# EAGLE library part MA06-1 (library bmowdisk)
PIN HEADER
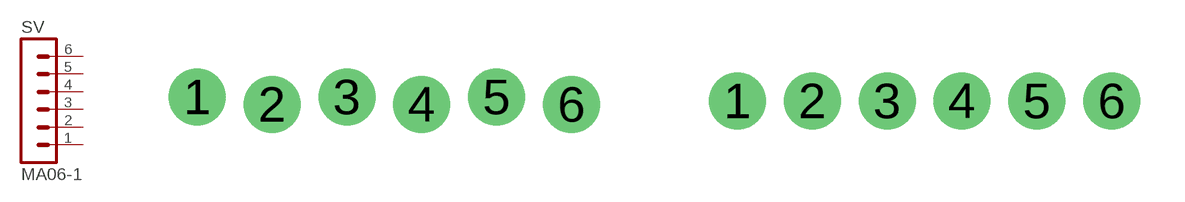
[diagram p4: symbol with the pads of MA06-1-LOCK; footprints MA06-1-LOCK, MA06-1]

Designator prefix SV

## MA06-1LOCK  [MA06-1-LOCK]
1  1  pas
2  2  pas
3  3  pas
4  4  pas
5  5  pas
6  6  pas

## MA06-1NORMAL (OC_FARNELL: unknown; OC_NEWARK: unknown)  [MA06-1]
Pads as for MA06-1-LOCK

## Footprint MA06-1-LOCK (pad centres in mm)
drill 1.016 pad 1.93: 1 -6.35,0.127; 2 -3.81,-0.127; 3 -1.27,0.127; 4 1.27,-0.127; 5 3.81,0.127; 6 6.35,-0.127

## Footprint MA06-1 (pad centres in mm)
PIN HEADER
drill 1.016 pad 1.93: 1 -6.35,0; 2 -3.81,0; 3 -1.27,0; 4 1.27,0; 5 3.81,0; 6 6.35,0